# Altium schematic symbol library MAX756CSA.SchLib: 1 symbol
Pins are listed as number, name and electrical type; pins without a type are passive.

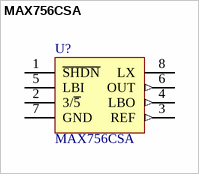
[diagram p0: symbol MAX756CSA]

## MAX756CSA
designator U?
3.3V/5V/Adjustable-Output, Step-Up DC-DC Converter; Part Field 1: IC, CMOS; Part Field 2: DC-DC Converter; Part Field 3: S-08; Part Field 4: Maxim; Part Field 5: MAX756CSA; Part Field 6: 222-479; Part Field 7: $5.38
footprint so-8
pins: 1 ~{SHDN}, 2 3/~{5}, 3 REF (out), 4 LBO (out), 5 LBI, 6 OUT (out), 7 GND (power), 8 LX